# Altium footprint library PCB_ActiveLED.PcbLib: 36 footprints (part 1 of 3)
Each footprint in its own frame and in the unit in brackets; x right, y up, seen from the top. Pads: shape width x height; smd on the part's side, far side on the other; paste and mask are expansions set on the pad; w line width, h text height; cw(c..) or ccw(c..) is an arc to the next point about the centre after c.
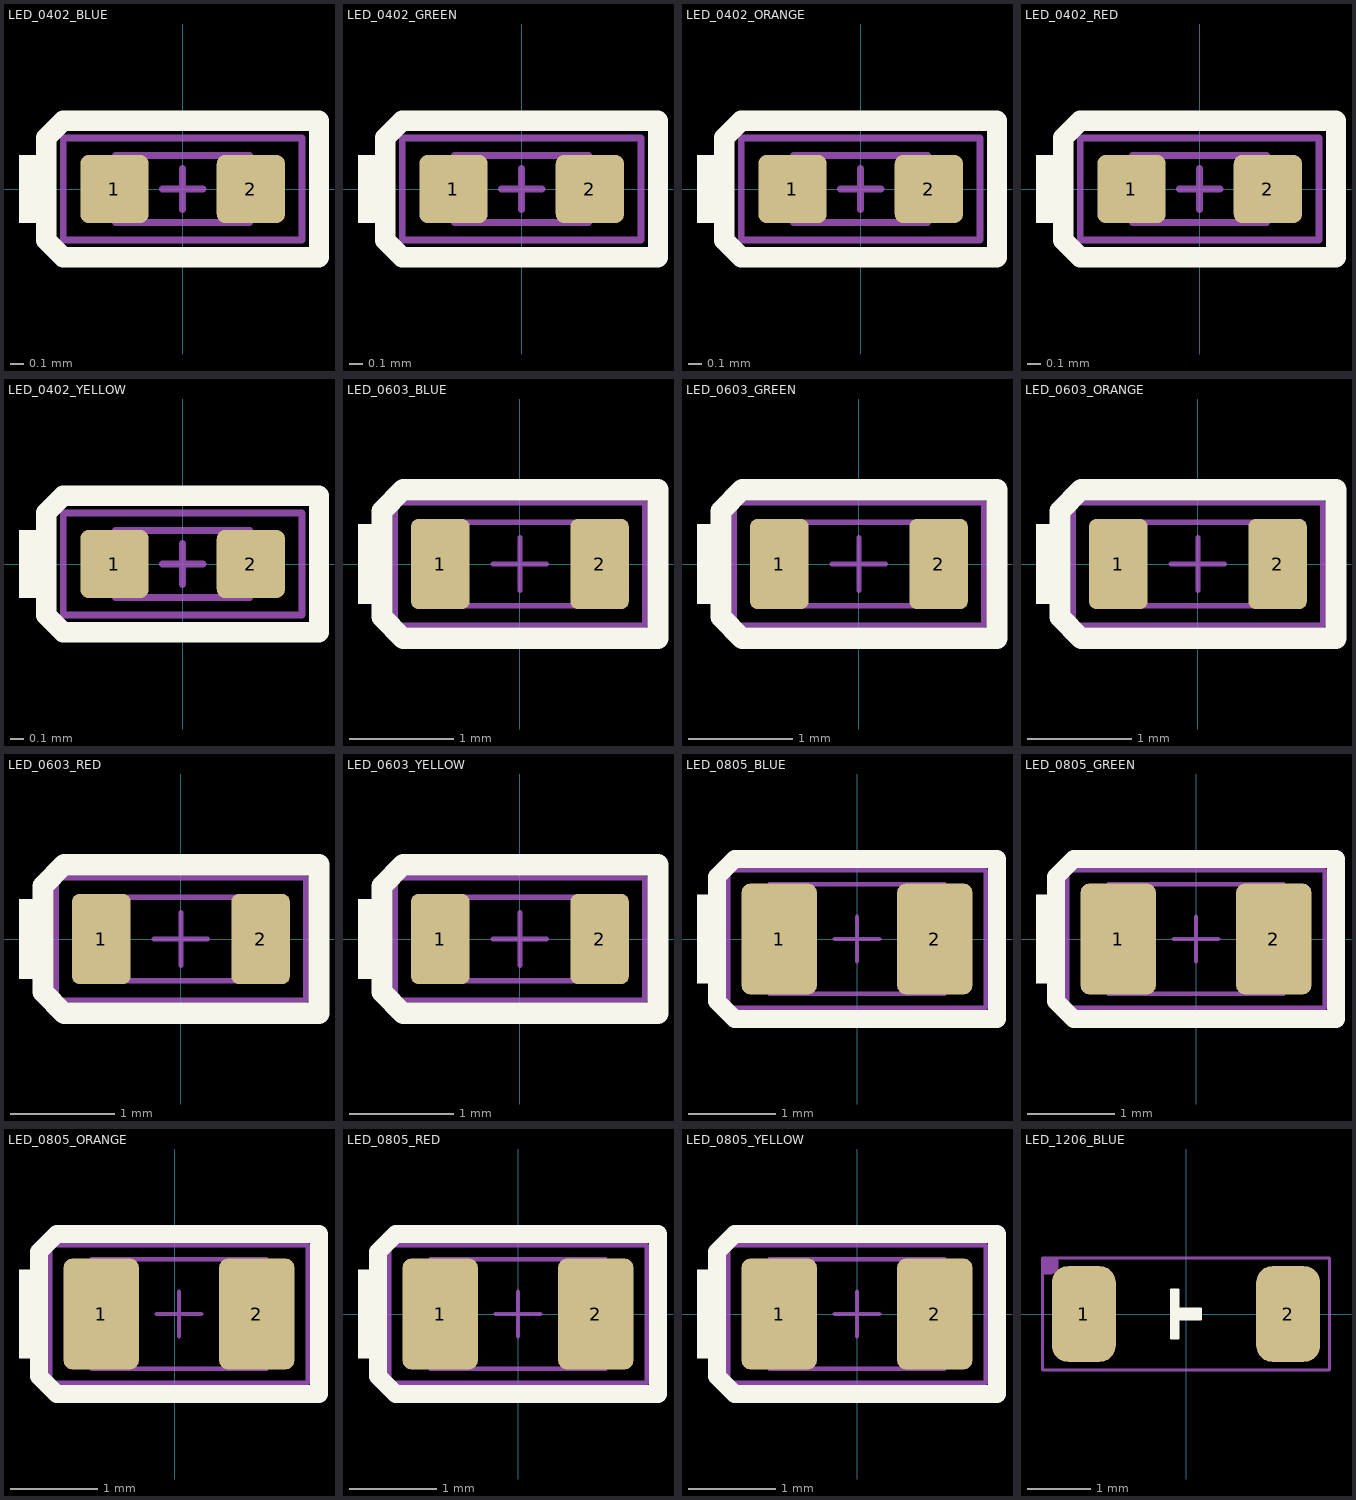
[diagram p0: the footprints below, top view; thin cyan lines are the x and y axes]

## LED_0402_BLUE [mil]
height 31.5
pads (2):
  rrect25% 20x20 smd mask+2: 1(-20,0) 2(20,0)
Top Overlay:
  rectangle: -48,-10 -40,10
  lines w6: -40,-15 -40,15 -35,20 -23,20 40,20 40,-20 -22,-20 -35,-20 -40,-15
Mechanical 13:
  lines w2: -6,0 6,0 ; 0,-6 0,6 ; -19.69,-9.84 19.68,-9.84 19.68,9.84 -19.69,9.84 -19.69,-9.84
T-Component:
  lines w2: -35,-15 -35,15 35,15 35,-15 -35,-15
3D body "User Library-led_0402LED0402 blue_.STEP": height 17.72, standoff 0, extent -19.88,-9.84 19.88,9.85

## LED_0402_GREEN [mil]
height 31.5
pads (2):
  rrect25% 20x20 smd mask+2: 1(-20,0) 2(20,0)
Top Overlay:
  rectangle: -48,-10 -40,10
  lines w6: -40,-15 -35,-20 -22,-20 40,-20 40,20 -23,20 -35,20 -40,15 -40,-15
Mechanical 13:
  lines w2: -6,0 6,0 ; 0,-6 0,6 ; -19.69,-9.84 -19.69,9.84 19.68,9.84 19.68,-9.84 -19.69,-9.84
T-Component:
  lines w2: -35,-15 35,-15 35,15 -35,15 -35,-15
3D body "User Library-led_0402LED0402 green_.STEP": height 17.72, standoff 0, extent -19.88,-9.84 19.88,9.84

## LED_0402_ORANGE [mil]
height 31.5
pads (2):
  rrect25% 20x20 smd mask+2: 1(-20,0) 2(20,0)
Top Overlay:
  rectangle: -48,-10 -40,10
  lines w6: -40,-15 -35,-20 -22,-20 40,-20 40,20 -23,20 -35,20 -40,15 -40,-15
Mechanical 13:
  lines w2: -6,0 6,0 ; 0,-6 0,6 ; -19.69,-9.84 -19.69,9.84 19.68,9.84 19.68,-9.84 -19.69,-9.84
T-Component:
  lines w2: -35,-15 35,-15 35,15 -35,15 -35,-15
3D body "User Library-led_0402LED0402 orange_.STEP": height 17.72, standoff 0, extent -19.88,-9.84 19.88,9.84

## LED_0402_RED [mil]
height 31.5
pads (2):
  rrect25% 20x20 smd mask+2: 1(-20,0) 2(20,0)
Top Overlay:
  rectangle: -48,-10 -40,10
  lines w6: -40,-15 -35,-20 -22,-20 40,-20 40,20 -23,20 -35,20 -40,15 -40,-15
Mechanical 13:
  lines w2: -6,0 6,0 ; 0,-6 0,6 ; -19.69,-9.84 -19.69,9.84 19.68,9.84 19.68,-9.84 -19.69,-9.84
T-Component:
  lines w2: -35,-15 35,-15 35,15 -35,15 -35,-15
3D body "User Library-led_0402LED0402 red_.STEP": height 17.72, standoff 0, extent -19.88,-9.84 19.88,9.84

## LED_0402_YELLOW [mil]
height 31.5
pads (2):
  rrect25% 20x20 smd mask+2: 1(-20,0) 2(20,0)
Top Overlay:
  rectangle: -48,-10 -40,10
  lines w6: -40,-15 -40,15 -35,20 -23,20 40,20 40,-20 -22,-20 -35,-20 -40,-15
Mechanical 13:
  lines w2: -6,0 6,0 ; 0,-6 0,6 ; -19.69,-9.84 19.68,-9.84 19.68,9.84 -19.69,9.84 -19.69,-9.84
T-Component:
  lines w2: -35,-15 -35,15 35,15 35,-15 -35,-15
3D body "User Library-led_0402LED0402 yellow_.STEP": height 17.72, standoff 0, extent -19.88,-9.84 19.88,9.84

## LED_0603_BLUE [mil]
height 31.5
pads (2):
  rrect25% 22x34 smd mask+2: 1(-30,0) 2(30,0)
Top Overlay:
  rectangle: -61,-15 -52,15
  lines w8: -52,-20 -52,20 -44,28 52,28 52,-28 -44,-28 -52,-20
Mechanical 13:
  lines w2: -10,0 10,0 ; 0,-10 0,10 ; -31.5,-15.75 -31.5,15.75 31.5,15.75 31.5,-15.75 -31.5,-15.75
T-Component:
  lines w2: -47,-23 -47,23 47,23 47,-23 -47,-23
3D body "User Library-led_0603LED0603 blue.STEP": height 23.62, standoff 0, extent -31.89,-15.75 31.89,15.75

## LED_0603_GREEN [mil]
height 31.5
pads (2):
  rrect25% 22x34 smd mask+2: 1(-30,0) 2(30,0)
Top Overlay:
  rectangle: -61,-15 -52,15
  lines w8: -52,-20 -44,-28 52,-28 52,28 -44,28 -52,20 -52,-20
Mechanical 13:
  lines w2: -10,0 10,0 ; 0,-10 0,10 ; -31.5,-15.75 31.5,-15.75 31.5,15.75 -31.5,15.75 -31.5,-15.75
T-Component:
  lines w2: -47,-23 47,-23 47,23 -47,23 -47,-23
3D body "User Library-led_0603LED0603 green.STEP": height 23.62, standoff 0, extent -31.89,-15.75 31.89,15.75

## LED_0603_ORANGE [mil]
height 31.5
pads (2):
  rrect25% 22x34 smd mask+2: 1(-30,0) 2(30,0)
Top Overlay:
  rectangle: -61,-15 -52,15
  lines w8: -52,-20 -44,-28 52,-28 52,28 -44,28 -52,20 -52,-20
Mechanical 13:
  lines w2: -10,0 10,0 ; 0,-10 0,10 ; -31.5,-15.75 31.5,-15.75 31.5,15.75 -31.5,15.75 -31.5,-15.75
T-Component:
  lines w2: -47,-23 47,-23 47,23 -47,23 -47,-23
3D body "User Library-led_0603LED0603 orange_.STEP": height 23.62, standoff 0, extent -31.89,-15.75 31.89,15.75

## LED_0603_RED [mil]
height 31.5
pads (2):
  rrect25% 22x34 smd mask+2: 1(-30,0) 2(30,0)
Top Overlay:
  rectangle: -61,-15 -52,15
  lines w8: -52,-20 -52,20 -44,28 52,28 52,-28 -44,-28 -52,-20
Mechanical 13:
  lines w2: -10,0 10,0 ; 0,-10 0,10 ; -31.5,-15.75 -31.5,15.75 31.5,15.75 31.5,-15.75 -31.5,-15.75
T-Component:
  lines w2: -47,-23 -47,23 47,23 47,-23 -47,-23
3D body "User Library-led_0603LED0603 red.STEP": height 23.62, standoff 0, extent -31.89,-15.75 31.89,15.75

## LED_0603_YELLOW [mil]
height 31.5
pads (2):
  rrect25% 22x34 smd mask+2: 1(-30,0) 2(30,0)
Top Overlay:
  rectangle: -61,-15 -52,15
  lines w8: -52,-20 -44,-28 52,-28 52,28 -44,28 -52,20 -52,-20
Mechanical 13:
  lines w2: -10,0 10,0 ; 0,-10 0,10 ; -31.5,-15.75 31.5,-15.75 31.5,15.75 -31.5,15.75 -31.5,-15.75
T-Component:
  lines w2: -47,-23 47,-23 47,23 -47,23 -47,-23
3D body "User Library-led_0603LED0603 yellow_.STEP": height 23.62, standoff 0, extent -31.89,-15.75 31.89,15.75

## LED_0805_BLUE [mil]
height 47.24
pads (2):
  rrect25% 34x50 smd mask+2: 1(-35,0) 2(35,0)
Top Overlay:
  region: -63,20 -72,20 -72,-20 -63,-20
  lines w8: -63,-28 -55,-36 63,-36 63,36 -55,36 -63,28 -63,-28
Mechanical 13:
  lines w2: -10,0 10,0 ; 0,-10 0,10 ; -39.37,-24.61 39.37,-24.61 39.37,24.61 -39.37,24.61 -39.37,-24.61
T-Component:
  lines w2: -58,-31 58,-31 58,31 -58,31 -58,-31
3D body "User Library-led_0805LED0805_blue.STEP": height 43.31, standoff 0, extent -39.76,-24.6 39.76,24.61

## LED_0805_GREEN [mil]
height 47.24
pads (2):
  rrect25% 34x50 smd mask+2: 1(-35,0) 2(35,0)
Top Overlay:
  region: -63,20 -72,20 -72,-20 -63,-20
  lines w8: -63,-28 -55,-36 63,-36 63,36 -55,36 -63,28 -63,-28
Mechanical 13:
  lines w2: -10,0 10,0 ; 0,-10 0,10 ; -39.37,-24.61 39.37,-24.61 39.37,24.61 -39.37,24.61 -39.37,-24.61
T-Component:
  lines w2: -58,-31 58,-31 58,31 -58,31 -58,-31
3D body "User Library-led_0805LED0805_green.STEP": height 43.31, standoff 0, extent -39.76,-24.6 39.76,24.61

## LED_0805_ORANGE [mil]
height 47.24
pads (2):
  rrect25% 34x50 smd mask+2: 1(-33,86) 2(37,86)
Top Overlay:
  region: -61,106 -70,106 -70,66 -61,66
  lines w8: -61,58 -53,50 65,50 65,122 -53,122 -61,114 -61,58
Mechanical 13:
  lines w2: -8,86 12,86 ; 2,76 2,96 ; -37.37,61.39 41.37,61.39 41.37,110.61 -37.37,110.61 -37.37,61.39
T-Component:
  lines w2: -56,55 60,55 60,117 -56,117 -56,55
3D body "User Library-led_0805LED0805_orange.STEP": height 43.31, standoff 0, extent -37.76,61.4 41.76,110.61

## LED_0805_RED [mil]
height 47.24
pads (2):
  rrect25% 34x50 smd mask+2: 1(-35,0) 2(35,0)
Top Overlay:
  region: -63,20 -72,20 -72,-20 -63,-20
  lines w8: -63,-28 -63,28 -55,36 63,36 63,-36 -55,-36 -63,-28
Mechanical 13:
  lines w2: -10,0 10,0 ; 0,-10 0,10 ; -39.37,-24.61 -39.37,24.61 39.37,24.61 39.37,-24.61 -39.37,-24.61
T-Component:
  lines w2: -58,-31 -58,31 58,31 58,-31 -58,-31
3D body "User Library-led_0805LED0805_blue.STEP": height 43.31, standoff 0, extent -39.76,-24.6 39.76,24.61
3D body "User Library-led_0805LED0805_red.STEP": height 43.31, standoff 0, extent -39.76,-24.61 39.76,24.61

## LED_0805_YELLOW [mil]
height 47.24
pads (2):
  rrect25% 34x50 smd mask+2: 1(-35,0) 2(35,0)
Top Overlay:
  region: -63,20 -72,20 -72,-20 -63,-20
  lines w8: -63,-28 -63,28 -55,36 63,36 63,-36 -55,-36 -63,-28
Mechanical 13:
  lines w2: -10,0 10,0 ; 0,-10 0,10 ; -39.37,-24.61 -39.37,24.61 39.37,24.61 39.37,-24.61 -39.37,-24.61
T-Component:
  lines w2: -58,-31 -58,31 58,31 58,-31 -58,-31
3D body "User Library-led_0805LED0805_yellow.STEP": height 43.31, standoff 0, extent -39.76,-24.61 39.76,24.61

## LED_1206_BLUE [mil]
height 47.24
pads (2):
  rrect50% 40x60 smd: 1(-64,0) 2(64,0)
Top Overlay:
  region: -9.5,15.5 -4.5,15.5 -4.5,3.5 9.5,3.5 9.5,-3.5 -4.5,-3.5 -4.5,-15.5 -9.5,-15.5
  lines w1: -9.5,-15.5 -4.5,-15.5 -4.5,-3.5 9.5,-3.5 9.5,3.5 -4.5,3.5 -4.5,15.5 -9.5,15.5 -9.5,-15.5
T-Component:
  region: -90,35 -80,35 -80,30 -80,29.01 -80.76,27.17 -82.17,25.76 -84.01,25 -85,25 -90,25
  lines w2: -90,-35 -90,35 90,35 90,-35 -90,-35
3D body "User Library-led_1206LED1206 blue.STEP": height 43.31, standoff 0, extent -63.39,-31.5 63.38,31.5